# Altium schematic symbol library M20-8761242.SchLib: 1 symbol
Pins are listed as number, name and electrical type; pins without a type are passive.

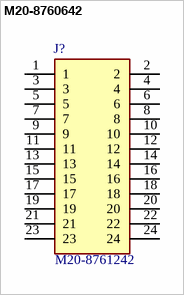
[diagram p0: symbol M20-8760642]

## M20-8760642
designator J?, comment M20-8761242
HARWIN M20, 2.54mm Pitch, 24 Way, 2 Row Unshrouded, Straight Pin Header, Surface Mount, Solder Termination; Manufacturer_Part_Number: M20-8760642; Geometry.Height: 8mm; Manufacturer_Name: Harwin; Mouser Part Number: 855-M20-8760642; Mouser Price/Stock: https://www.mouser.com/Search/Refine.aspx?Keyword=855-M20-8760642; Arrow Part Number: *; Arrow Price/Stock: *; Datasheet Link: https://cdn.harwin.com/pdfs/M20-876.pdf
footprint Model Name (Footprint not found)
pins: 1, 2, 3, 4, 5, 6, 7, 8, 9, 10, 11, 12, 13, 14, 15, 16, 17, 18, 19, 20, 21, 22, 23, 24